# Altium footprint library MAX232AEUE.PcbLib: 1 footprints
Each footprint in its own frame and in the unit in brackets; x right, y up, seen from the top. Pads: shape width x height; smd on the part's side, far side on the other; paste and mask are expansions set on the pad; w line width, h text height; cw(c..) or ccw(c..) is an arc to the next point about the centre after c.
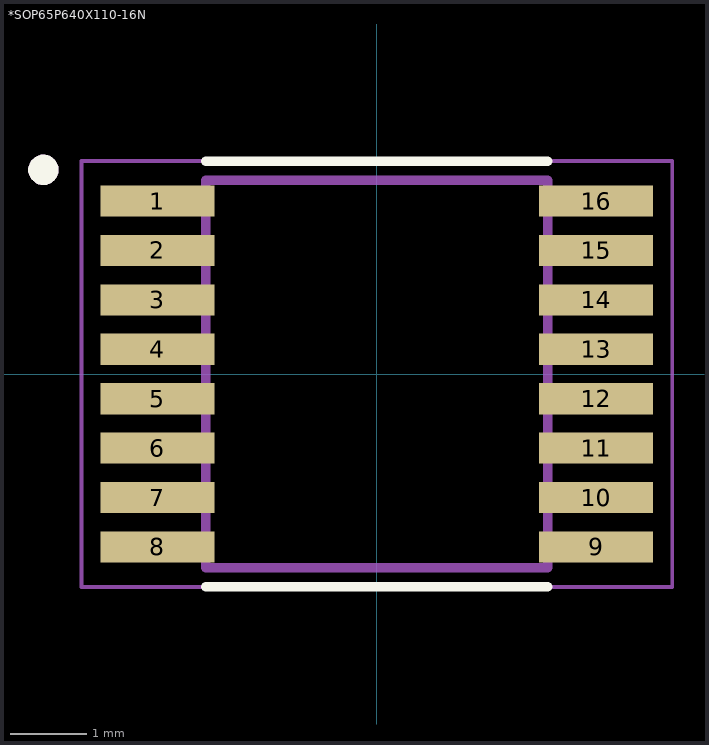
[diagram p0: the footprint, top view; thin cyan lines are the x and y axes]

## *SOP65P640X110-16N [mm]
pads (16):
  rect 1.5x0.41 smd: 1(-2.885,2.275) 2(-2.885,1.625) 3(-2.885,0.975) 4(-2.885,0.325) 5(-2.885,-0.325) 6(-2.885,-0.975) 7(-2.885,-1.625) 8(-2.885,-2.275) 9(2.885,-2.275) 10(2.885,-1.625) 11(2.885,-0.975) 12(2.885,-0.325) 13(2.885,0.325) 14(2.885,0.975) 15(2.885,1.625) 16(2.885,2.275)
Top Overlay:
  circle w0.2: c-4.385,2.685 r0.1
  lines w0.127: -2.25,-2.8 2.25,-2.8 ; -2.25,2.8 2.25,2.8
Mechanical 4:
  circle w0.2: c-4.385,2.685 r0.1
  circle w0.2: c-4.385,2.685 r0.1
  lines w0.127: -2.25,-2.55 2.25,-2.55 ; -2.25,-2.55 -2.25,2.55 ; -2.25,-2.55 2.25,-2.55 ; -2.25,-2.55 -2.25,2.55 ; -2.25,2.55 2.25,2.55 ; -2.25,2.55 2.25,2.55 ; 2.25,-2.55 2.25,2.55 ; 2.25,-2.55 2.25,2.55
Courtyard Bottom:
  lines w0.05: -3.885,-2.8 3.885,-2.8 3.885,2.8 -3.885,2.8 -3.885,-2.8